# Altium schematic symbol library 1747981-1.SchLib: 1 symbol
Pins are listed as number, name and electrical type; pins without a type are passive.

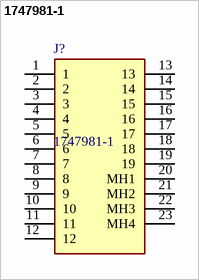
[diagram p0: symbol 1747981-1]

## 1747981-1
designator J?
HDMI Receptacle Connector 19 Position Panel Mount; Surface Mount, Right Angle; Through Hole; Manufacturer_Name: TE Connectivity; Geometry.Height: 6.38mm; Mouser Part Number: 571-1747981-1; Mouser Price/Stock: https://www.mouser.co.uk/ProductDetail/TE-Connectivity/1747981-1?qs=z5WhPA3s7zPU1O1OMn7SIA%3D%3D; Manufacturer_Part_Number: 1747981-1; Datasheet Link: https://www.digikey.com/htmldatasheets/production/12378/0/0/1/2-1747981-1.pdf
footprint 17479811
pins: 1, 2, 3, 4, 5, 6, 7, 8, 9, 10, 11, 12, 13, 14, 15, 16, 17, 18, 19, 20 MH1, 21 MH2, 22 MH3, 23 MH4